# Altium integrated library HMC5883L.IntLib: 1 symbol
Pins are listed as number, name and electrical type; pins without a type are passive.

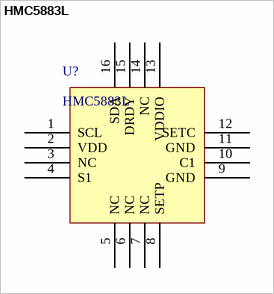
[diagram p0: symbol HMC5883L]

## HMC5883L
designator U?
footprint LCCS50P300X300X90-16N-1 (LCC, 16-Pins, Body 3.00x3.00mmx0.90mm, Pitch 0.50mm, IPC Medium Density)
pins: 1 SCL, 2 VDD, 3 NC, 4 S1, 5 NC, 6 NC, 7 NC, 8 SETP, 9 GND, 10 C1, 11 GND, 12 SETC, 13 VDDIO, 14 NC, 15 DRDY, 16 SDA